# EAGLE library part ENC28J60-H (library custom)
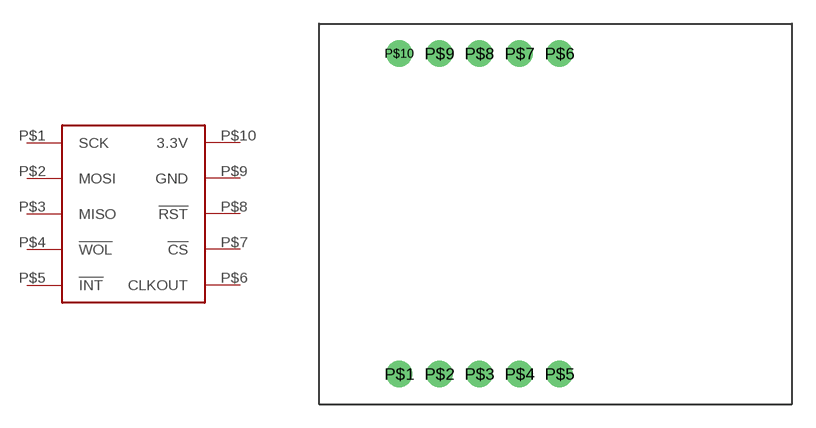
[diagram p4: symbol with the pads of ENC28J60-H; footprint ENC28J60-H]

Designator prefix -

## ENC28J60-H  [ENC28J60-H]
P$1  SCK  in
P$2  MOSI  in
P$3  MISO  out
P$4  !WOL  out
P$5  !INT  out
P$6  CLKOUT  out
P$7  !CS  in
P$8  !RST
P$9  GND  pwr
P$10  3.3V  pwr

## Footprint ENC28J60-H (pad centres in mm)
Olimex ENC28J60-H
drill 0.813 pad 1.676 round: P$1 -10.16,-10.16; P$2 -7.62,-10.16; P$3 -5.08,-10.16; P$4 -2.54,-10.16; P$5 0,-10.16; P$6 0,10.16; P$7 -2.54,10.16; P$8 -5.08,10.16; P$9 -7.62,10.16; P$10 -10.16,10.16